# Altium schematic symbol library ADS5562IRGZT.Schlib: 1 symbol
Pins are listed as number, name and electrical type; pins without a type are passive.

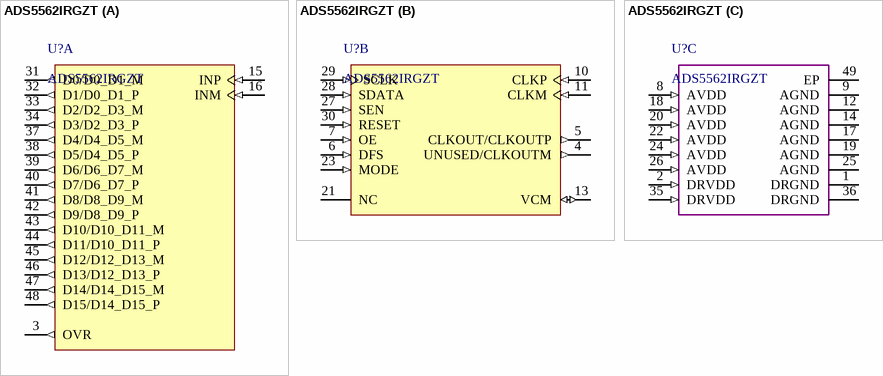
[diagram p0: symbol ADS5562IRGZT]

## ADS5562IRGZT
designator U?
part A pins: 3 OVR (out) "Out-of-range indicator, CMOS level signal", 15 INP (in) "Differential analog input", 16 INM (in) "Differential analog input", 31 D0/D0_D1_M (out), 32 D1/D0_D1_P (out), 33 D2/D2_D3_M (out), 34 D3/D2_D3_P (out), 37 D4/D4_D5_M (out), 38 D5/D4_D5_P (out), 39 D6/D6_D7_M (out), 40 D7/D6_D7_P (out), 41 D8/D8_D9_M (out), 42 D9/D8_D9_P (out), 43 D10/D10_D11_M (out), 44 D11/D10_D11_P (out), 45 D12/D12_D13_M (out), 46 D13/D12_D13_P (out), 47 D14/D14_D15_M (out), 48 D15/D14_D15_P (out)
part B pins: 4 UNUSED/CLKOUTM (out), 5 CLKOUT/CLKOUTP (out), 6 DFS (in) "Data Format Select input. This pin sets the DATA FORMAT (Twos complement or Offset binary) and the LVDS/CMOS output mode type. See Table 8 for detailed information. The pin has an internal 100-kohm pull-down resistor to (See Datasheet)", 7 OE (in) "Output buffer enable input, active high. The pin has an internal 100-kohm pull-up resistor to DRVDD.", 10 CLKP (in) "Differential clock input", 11 CLKM (in) "Differential clock input", 13 VCM (io) "Internal reference mode - Common-mode voltage output. External reference mode - Reference input. The voltage forced on this pin sets the internal references.", 21 NC "Do not connect", 23 MODE (in) "Mode select input. This pin selects the Internal or External reference mode. See Table 9 for detailed information. The pin has an internal 100-kohm pull-down resistor to AGND.", 27 SEN (in) "This pin functions as serial interface enable input when RESET is low. It functions as CLKOUT edge programmability when RESET is tied high. See Table 7 for detailed information. The pin has an internal 100-kohm pull-up (See Datasheet)", 28 SDATA (in) "This pin functions as serial interface data input when RESET is low. It functions as STANDBY control pin when RESET is tied high.See Table 6 for detailed information.The pin has an internal 100-kohm pull-down resistor to (See Datasheet)", 29 SCLK (in) "This pin functions as serial interface clock input when RESET is low. It functions as LOW SPEED MODE control when RESET is tied high.", 30 RESET (in) "Serial interface reset input. When using the serial interface, the user should apply a high-going pulse onthis pin to reset the internal registers. When the serial interface is not used, the user should tie RESET permanently (See Datasheet)"
part C pins: 1 DRGND (power) "Digital and output buffer ground", 2 DRVDD (in) "Digital and output buffer supply", 8 AVDD (in) "Analog power supply", 9 AGND (power) "Analog ground", 12 AGND (power) "Analog ground", 14 AGND (power) "Analog ground", 17 AGND (power) "Analog ground", 18 AVDD (in) "Analog power supply", 19 AGND (power) "Analog ground", 20 AVDD (in) "Analog power supply", 22 AVDD (in) "Analog power supply", 24 AVDD (in) "Analog power supply", 25 AGND (power) "Analog ground", 26 AVDD (in) "Analog power supply", 35 DRVDD (in) "Digital and output buffer supply", 36 DRGND (power) "Digital and output buffer ground", 49 EP (power) "Connect the PAD to the ground plane. See in application section."